# Altium footprint library SMD_INDUCTOR_12.8X12.8X7mm_1.PcbLib: 1 footprints
Each footprint in its own frame and in the unit in brackets; x right, y up, seen from the top. Pads: shape width x height; smd on the part's side, far side on the other; paste and mask are expansions set on the pad; w line width, h text height; cw(c..) or ccw(c..) is an arc to the next point about the centre after c.
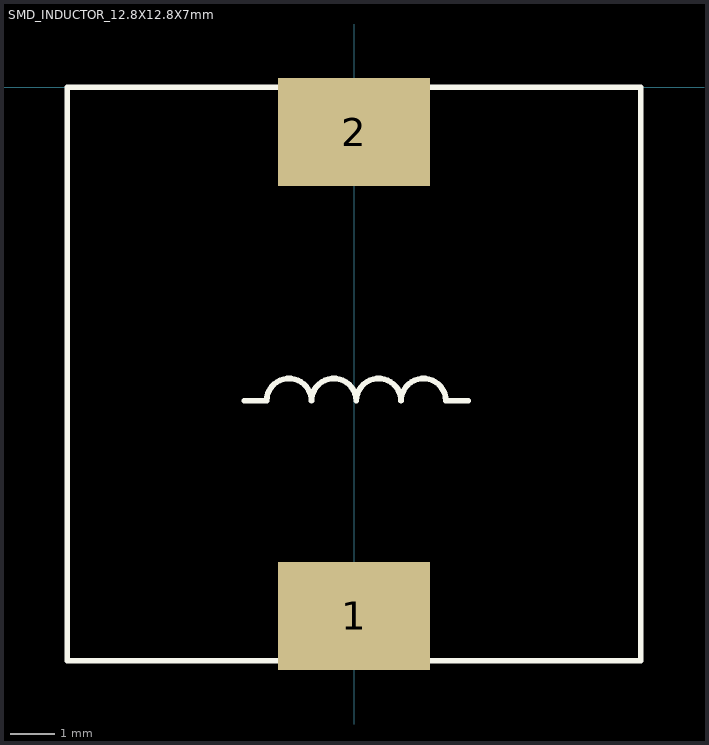
[diagram p0: the footprint, top view; thin cyan lines are the x and y axes]

## SMD_INDUCTOR_12.8X12.8X7mm [mm]
pads (2):
  rect 3.4x2.4 smd: 1(0,-11.8) 2(0,-1)
Top Overlay:
  lines w0.127: -2.45,-7 -1.95,-7 cw(c-1.45,-7) -0.95,-7 cw(c-0.45,-7) 0.05,-7 cw(c0.55,-7) 1.05,-7 cw(c1.55,-7) 2.05,-7 2.55,-7 ; -6.4,-12.8 6.4,-12.8 6.4,0 -6.4,0 -6.4,-12.8